# EAGLE library part SI3400--X-GM (library silabs-eth)
Si3400 Power-over-Ethernet (PoE)
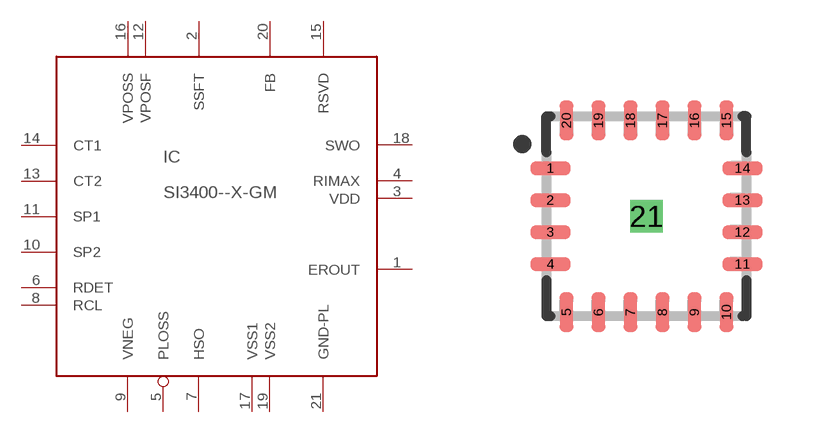
[diagram p2: symbol with the pads of QFN-20; footprint QFN-20]

Designator prefix IC

## SI3400--X-GM  [QFN-20]
1  EROUT  pas
2  SSFT  out
3  VDD  pwr
4  RIMAX  pas
5  PLOSS  out
6  RDET  in
7  HSO  out
8  RCL  in
9  VNEG  pas
10  SP2  in
11  SP1  in
12  VPOSF  pwr
13  CT2  in
14  CT1  in
15  RSVD  pas
16  VPOSS  pas
17  VSS1  pwr
18  SWO  out
19  VSS2  pas
20  FB  in
21  GND-PL  pwr

## Footprint QFN-20 (pad centres in mm)
20-Lead Quad Flat IPC7351 - QFN80P500X500X90-21N
smd 1 x 0.35: 1 -2.4,1.2; 2 -2.4,0.4; 3 -2.4,-0.4; 4 -2.4,-1.2; 11 2.4,-1.2; 12 2.4,-0.4; 13 2.4,0.4; 14 2.4,1.2
smd 0.35 x 1: 5 -2,-2.4; 6 -1.2,-2.4; 7 -0.4,-2.4; 8 0.4,-2.4; 9 1.2,-2.4; 10 2,-2.4; 15 2,2.4; 16 1.2,2.4; 17 0.4,2.4; 18 -0.4,2.4; 19 -1.2,2.4; 20 -2,2.4
drill 0.3 pad 0.75 square: 21 0,0